# Altium integrated library 1.5KE6.8A (1).IntLib: 1 symbol
Pins are listed as number, name and electrical type; pins without a type are passive.

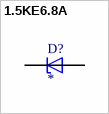
[diagram p0: symbol 1.5KE6.8A]

## 1.5KE6.8A
designator D?
10.5V Clamp 144.8A Ipp Tvs Diode Through Hole DO-201; MF: Littelfuse; MP: 1.5KE6.8A; SnapEDA_Link: https://www.snapeda.com/parts/1.5KE6.8A/Littelfuse/view-part/?ref=snap; Package: DO-201 Littelfuse; Value: *; Check_prices: https://www.snapeda.com/parts/1.5KE6.8A/Littelfuse/view-part/?ref=eda
footprint DIOAD1586W101L900D530
pins: A, C